# Altium schematic symbol library 74437324022.SchLib: 1 symbol
Pins are listed as number, name and electrical type; pins without a type are passive.

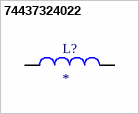
[diagram p0: symbol 74437324022]

## 74437324022
designator L?
LHMI Inductor 4020 1.0uH 5.0A 27.0mOhm; MP: 74437324022; MF: {'manufacturer': u'W\xfcrth Elektronik'}; Availability: Unavailable; Price: None; Package: None; Value: *
footprint IND_74437324022
pins: 1, 2